# Altium schematic symbol library eUSR_SchLibrary - Sensors.SchLib: 14 symbols
Pins are listed as number, name and electrical type; pins without a type are passive.

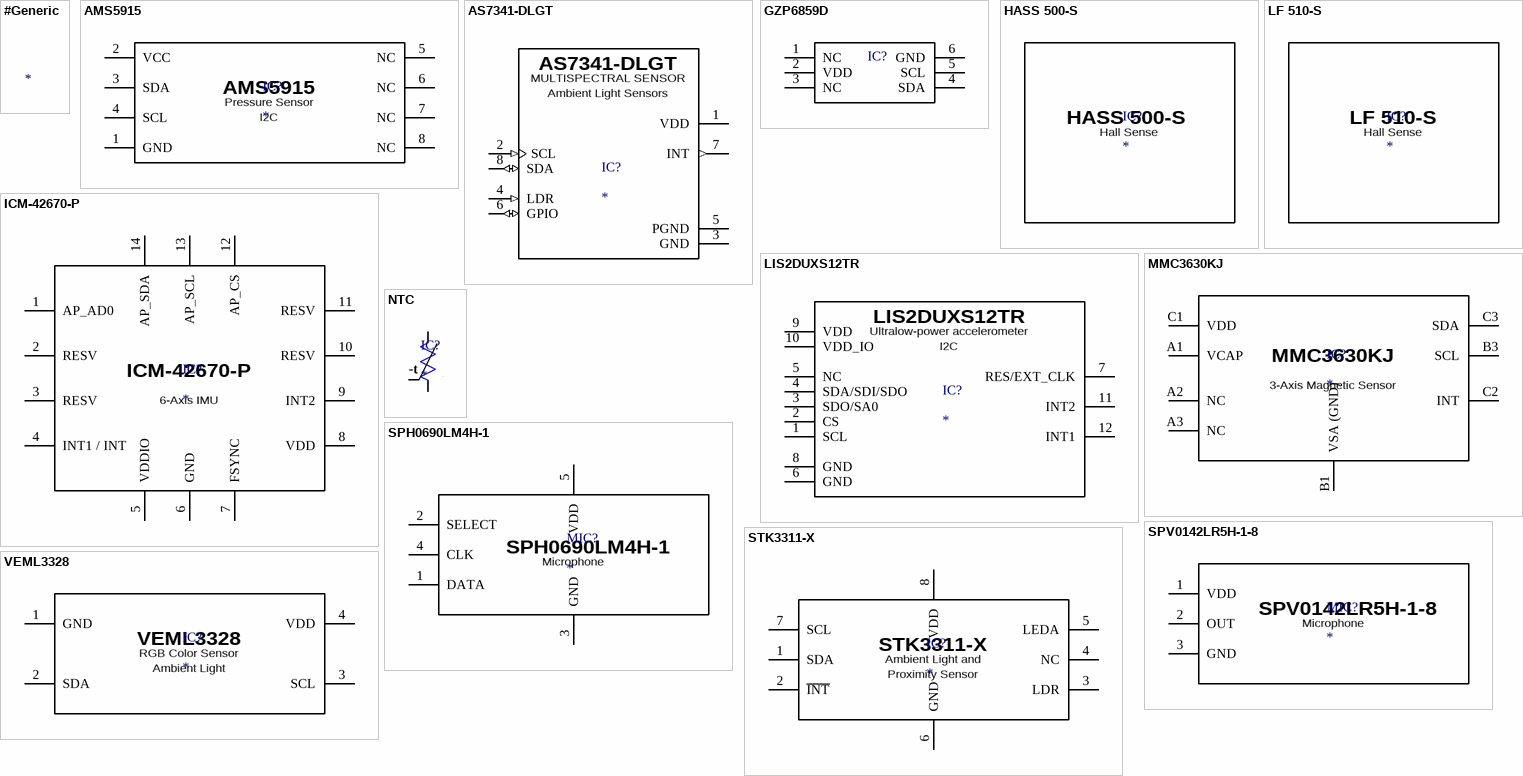
[diagram p0: symbols #Generic to VEML3328]

## #Generic
designator ?
Manufacturing: #####; Value: #####; Package: #####; Price: #####; PN: #####; ComponentLink1Description: Datasheet; ComponentLink1URL: #####; ComponentLink2Description: Distributor Link; ComponentLink2URL: #####; Distributor: #####; Distributor PN: #####

## AMS5915
designator IC?
ComponentLink1Description: Datasheet; ComponentLink1URL: *; ComponentLink2Description: Distributor Link; ComponentLink2URL: *
pins: 1 GND, 2 VCC, 3 SDA, 4 SCL, 5 NC, 6 NC, 7 NC, 8 NC
text: Pressure Sensor; I2C

## AS7341-DLGT
designator IC?
ComponentLink1Description: Datasheet; ComponentLink1URL: *; ComponentLink2Description: Distributor Link; ComponentLink2URL: *
pins: 1 VDD (power), 2 SCL (in), 3 GND (power), 4 LDR (in), 5 PGND (power), 6 GPIO (io), 7 INT (out), 8 SDA (io)
text: MULTISPECTRAL SENSOR; Ambient Light Sensors

## GZP6859D
designator IC?  (value not drawn)
ComponentLink1Description: Datasheet; ComponentLink1URL: *; ComponentLink2Description: Distributor Link; ComponentLink2URL: *
pins: 1 NC, 2 VDD, 3 NC, 4 SDA, 5 SCL, 6 GND

## HASS 500-S
designator IC?
ComponentLink1Description: Datasheet; ComponentLink1URL: *; ComponentLink2Description: Distributor Link; ComponentLink2URL: *
text: Hall Sense

## ICM-42670-P
designator IC?
ComponentLink1Description: Datasheet; ComponentLink1URL: *; ComponentLink2Description: Distributor Link; ComponentLink2URL: *
pins: 1 AP_AD0, 2 RESV, 3 RESV, 4 INT1 / INT, 5 VDDIO, 6 GND, 7 FSYNC, 8 VDD, 9 INT2, 10 RESV, 11 RESV, 12 AP_CS, 13 AP_SCL, 14 AP_SDA
text: 6-Axis IMU

## LF 510-S
designator IC?
ComponentLink1Description: Datasheet; ComponentLink1URL: *; ComponentLink2Description: Distributor Link; ComponentLink2URL: *
text: Hall Sense

## LIS2DUXS12TR
designator IC?
ComponentLink1Description: Datasheet; ComponentLink1URL: *; ComponentLink2Description: Distributor Link; ComponentLink2URL: *
pins: 1 SCL, 2 CS, 3 SDO/SA0, 4 SDA/SDI/SDO, 5 NC, 6 GND, 7 RES/EXT_CLK, 8 GND, 9 VDD, 10 VDD_IO, 11 INT2, 12 INT1
text: Ultralow-power accelerometer; I2C

## MMC3630KJ
designator IC?
ComponentLink1Description: Datasheet; ComponentLink1URL: *; ComponentLink2Description: Distributor Link; ComponentLink2URL: *
pins: A1 VCAP, A2 NC, A3 NC, B1 VSA (GND), B3 SCL, C1 VDD, C2 INT, C3 SDA
text: 3-Axis Magnetic Sensor

## NTC
designator IC?
ComponentLink1Description: Datasheet; ComponentLink1URL: *; ComponentLink2Description: Distributor Link; ComponentLink2URL: *
pins: 1, 2
text: -t

## SPH0690LM4H-1
designator MIC?
ComponentLink1Description: Datasheet; ComponentLink1URL: *; ComponentLink2Description: Distributor Link; ComponentLink2URL: *
pins: 1 DATA, 2 SELECT, 3 GND, 4 CLK, 5 VDD
text: Microphone

## SPV0142LR5H-1-8
designator MIC?
ComponentLink1Description: Datasheet; ComponentLink1URL: *; ComponentLink2Description: Distributor Link; ComponentLink2URL: *
pins: 1 VDD, 2 OUT, 3 GND
text: Microphone

## STK3311-X
designator IC?
ComponentLink1Description: Datasheet; ComponentLink1URL: *; ComponentLink2Description: Distributor Link; ComponentLink2URL: *
pins: 1 SDA, 2 ~{INT}, 3 LDR, 4 NC, 5 LEDA, 6 GND, 7 SCL, 8 VDD
text: Ambient Light and; Proximity Sensor

## VEML3328
designator IC?
ComponentLink1Description: Datasheet; ComponentLink1URL: *; ComponentLink2Description: Distributor Link; ComponentLink2URL: *
pins: 1 GND, 2 SDA, 3 SCL, 4 VDD
text: RGB Color Sensor; Ambient Light